# Altium schematic symbol library ATxmega64A4U-AU.SchLib: 1 symbol
Pins are listed as number, name and electrical type; pins without a type are passive.

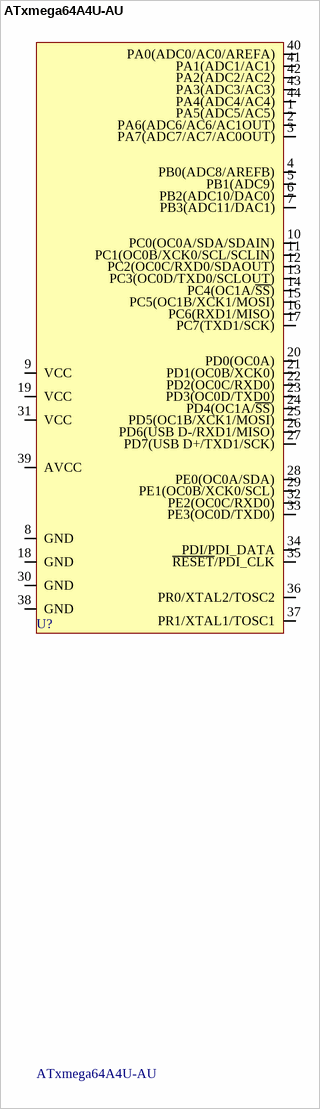
[diagram p0: symbol ATxmega64A4U-AU]

## ATxmega64A4U-AU
designator U?
8/16-bit AVR XMEGA A4U Microcontroller, 1.6-3.6V, 64KB + 4KB Flash; PackageReference: 44A; PackageDescription: 44-Pin Plastic Thin Profile Quad Flat Pack, 10 x 10 x 1.0 mm Body, 0.8 mm Pitch (TQFP)
footprint 44A_L (Thin QFP, 44-Leads, Body 10x10mm, Pitch 0.8mm, IPC High Density)
footprint 44A_M (Thin QFP, 44-Leads, Body 10x10mm, Pitch 0.8mm, IPC Low Density)
footprint 44A_N (Thin QFP, 44-Leads, Body 10x10mm, Pitch 0.8mm, IPC Medium Density)
pins: 1 PA5(ADC5/AC5) (io), 2 PA6(ADC6/AC6/AC1OUT) (io), 3 PA7(ADC7/AC7/AC0OUT) (io), 4 PB0(ADC8/AREFB) (io), 5 PB1(ADC9) (io), 6 PB2(ADC10/DAC0) (io), 7 PB3(ADC11/DAC1) (io), 8 GND (power), 9 VCC (power), 10 PC0(OC0A/SDA/SDAIN) (io), 11 PC1(OC0B/XCK0/SCL/SCLIN) (io), 12 PC2(OC0C/RXD0/SDAOUT) (io), 13 PC3(OC0D/TXD0/SCLOUT) (io), 14 PC4(OC1A/~{SS}) (io), 15 PC5(OC1B/XCK1/MOSI) (io), 16 PC6(RXD1/MISO) (io), 17 PC7(TXD1/SCK) (io), 18 GND (power), 19 VCC (power), 20 PD0(OC0A) (io), 21 PD1(OC0B/XCK0) (io), 22 PD2(OC0C/RXD0) (io), 23 PD3(OC0D/TXD0) (io), 24 PD4(OC1A/~{SS}) (io), 25 PD5(OC1B/XCK1/MOSI) (io), 26 PD6(USB D-/RXD1/MISO) (io), 27 PD7(USB D+/TXD1/SCK) (io), 28 PE0(OC0A/SDA) (io), 29 PE1(OC0B/XCK0/SCL) (io), 30 GND (power), 31 VCC (power), 32 PE2(OC0C/RXD0) (io), 33 PE3(OC0D/TXD0) (io), 34 PDI/PDI_DATA (io), 35 ~{RESET}/PDI_CLK (in), 36 PR0/XTAL2/TOSC2 (io), 37 PR1/XTAL1/TOSC1 (io), 38 GND (power), 39 AVCC (power), 40 PA0(ADC0/AC0/AREFA) (io), 41 PA1(ADC1/AC1) (io), 42 PA2(ADC2/AC2) (io), 43 PA3(ADC3/AC3) (io), 44 PA4(ADC4/AC4) (io)